# Altium schematic symbol library Q_PFET_SMALL.Schlib: 1 symbol
Pins are listed as number, name and electrical type; pins without a type are passive.

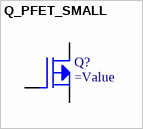
[diagram p0: symbol Q_PFET_SMALL]

## Q_PFET_SMALL
designator Q?
Mosfet, P Channel, Small Signal
pins: DRAIN, GATE, SOURCE